# Altium integrated library Buzzer.IntLib: 2 symbols
Pins are listed as number, name and electrical type; pins without a type are passive.

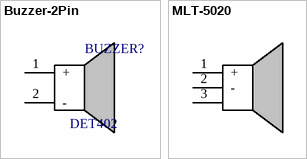
[diagram p0: symbols Buzzer-2Pin to MLT-5020]

## Buzzer-2Pin
designator BUZZER?, comment DET402
footprint DET402
footprint BUZ-SMD_L9.6-W9.6-LS10.0-R
footprint BUZ-SMD_L4.0-W4.0-P3.50-L
pins: 1 +, 2 -

## MLT-5020
designator BUZZER??, comment 4kHz  (value not drawn)
Manufacturer: 华能; Add into BOM: yes; Oscillator Circuit: 无源(外部驱动); Technology Type: 电磁式; Name: 4kHz; Symbol: MLT-5020; Device: MLT-5020; LCSC Part Name: MLT-5020; Supplier Part: C94598; Manufacturer Part: MLT-5020; Supplier Footprint: SMD,5x5mm; JLCPCB Part Class: Extended Part; Datasheet: https://atta.szlcsc.com/upload/public/pdf/source/20210811/111454390007D221D7259018FB170E62.pdf; Supplier: LCSC; Convert to PCB: yes; Value: 4kHz; Length: 5.2mm; Width: 5.2mm; Height: 2.5mm
footprint BUZ-SMD_L5.0-W5.5-P4.60
pins: 1 +, 2 -, 3 NC